# Altium schematic symbol library CN HDR 3POS JST XH RA.SchLib: 1 symbol
Pins are listed as number, name and electrical type; pins without a type are passive.

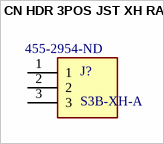
[diagram p0: symbol CN HDR 3POS JST XH RA]

## CN HDR 3POS JST XH RA
designator J?, comment S3B-XH-A  Supplier Part Number 1: 455-2954-ND
Connector Header Through Hole Right Angle 3 position 0.098 (2.50mm); MF: JST Sales; MP: B3B-XH-A(LF)(SN); Check_prices: https://www.snapeda.com/parts/B3B-XH-A(LF)(SN)/JST%20Sales%20America%20Inc./view-part/231271/?ref=eda; Value: *; Package: None; Price: None; Availability: In Stock; SnapEDA_Link: https://www.snapeda.com/parts/B3B-XH-A(LF)(SN)/JST%20Sales%20America%20Inc./view-part/231271/?ref=snap; Supplier 1: Digi-Key
footprint JST_S3B-XH-A
pins: 1, 2, 3